# Altium footprint library 7_4V.PcbLib: 1 footprints
Each footprint in its own frame and in the unit in brackets; x right, y up, seen from the top. Pads: shape width x height; smd on the part's side, far side on the other; paste and mask are expansions set on the pad; w line width, h text height; cw(c..) or ccw(c..) is an arc to the next point about the centre after c.
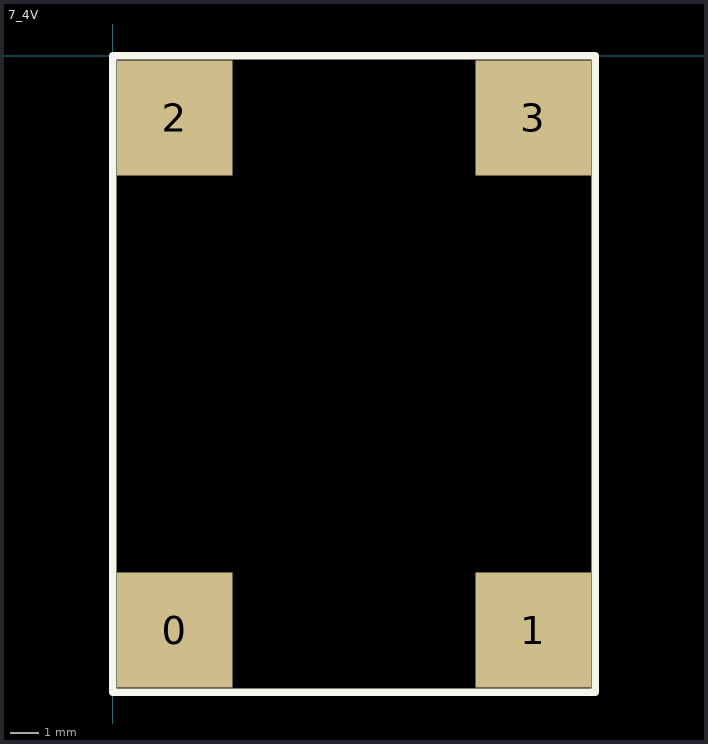
[diagram p0: the footprint, top view; thin cyan lines are the x and y axes]

## 7_4V [mm]
pads (4):
  rect 4x4 all layers, no hole: 0(2.159,-19.939) 1(14.605,-19.939) 2(2.159,-2.159) 3(14.605,-2.159)
Top Overlay:
  lines w0.254: 0,-22.098 0,0 16.764,0 16.764,-22.098 0,-22.098